# Altium schematic symbol library PSU_lib.SchLib: 118 symbols
Pins are listed as number, name and electrical type; pins without a type are passive.

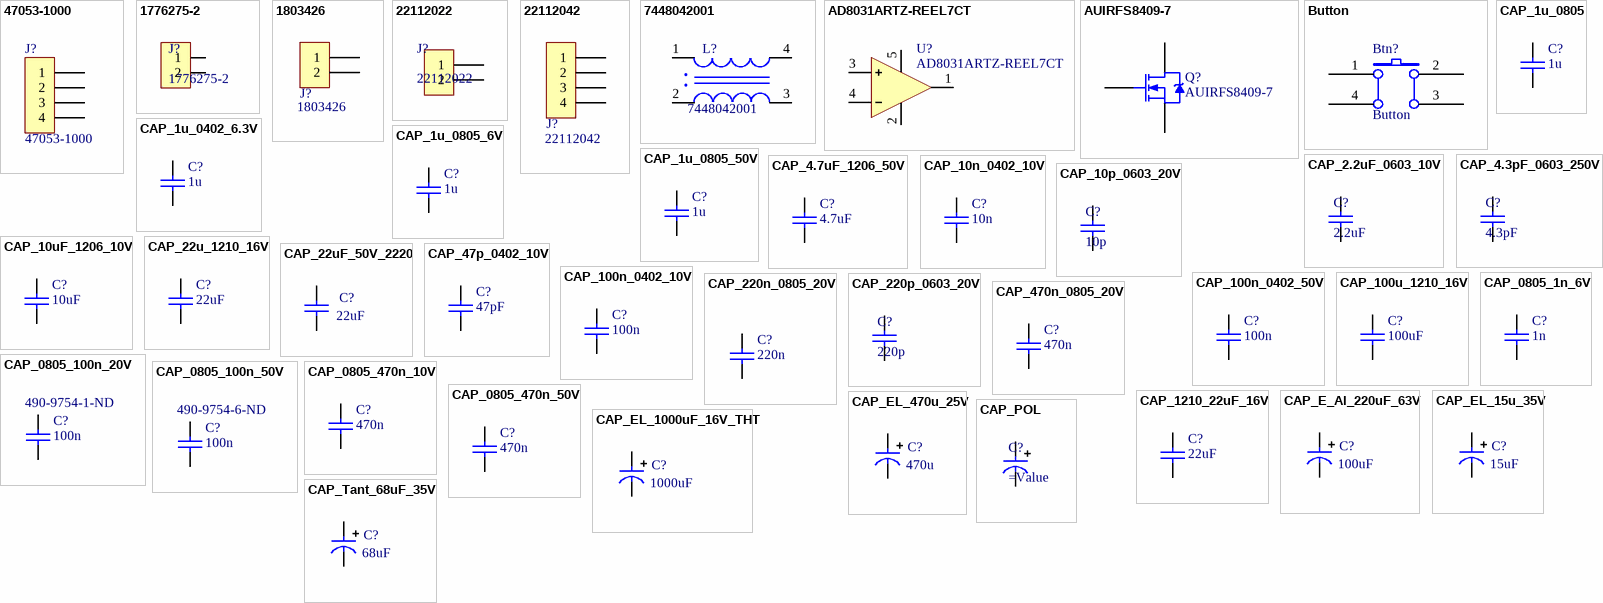
[diagram p0: symbols 47053-1000 to CAP_Tant_68uF_35V]

## 47053-1000
designator J?
Fan Molex; HelpURL: http://www.molex.com/pdm_docs/sd/470531000_sd.pdf; Supplier 1: Digikey; Supplier Part Number 1: 47053-1000
footprint 47053-1000
pins: 1, 2, 3, 4

## 1776275-2
designator J?
1776275-2 Screw terminal 3.5mm; HelpURL: http://www.farnell.com/cad/2291290.pdf?_ga=2.72031187.1173766906.1498332400-516227586.1495631175; Supplier 1: Farnell; Supplier Part Number 1: 1098611
footprint 1776275-2 (1776275-2 Screw terminal)
pins: 1, 2

## 1803426
designator J?
2 Position Terminal Block Header; Manufacturer: Phoenix Contact; Pin Count: 2; ManufacturerNr: 1803426; HelpURL: https://media.digikey.com/pdf/Data%20Sheets/Phoenix%20Contact%20PDFs/1803426.pdf; Supplier 1: Digikey; Supplier Part Number 1: 277-1221-ND
footprint 1803426
pins: 1, 2

## 22112022
designator J?
KK® 254 Solid Header, Vertical, with Friction Lock, 2 Circuits, Gold (Au) Plating
footprint 22112022
pins: 1, 2

## 22112042
designator J?
KK® 254 Solid Header, Vertical, with Friction Lock, 4 Circuits, Gold (Au) Plating; Manufacturer: Molex; Pin Count: 4; ManufacturerNr: 22-11-2042; HelpURL: http://www.molex.com/pdm_docs/sd/022112042_sd.pdf; Supplier 1: Digikey; Supplier Part Number 1: WM2702-ND
footprint 22112042
footprint 22112042
pins: 1, 2, 3, 4

## 7448042001
designator L?
Common Mode Choke; HelpURL: http://www.mouser.com/ds/2/445/7448042001-321510.pdf; Supplier 1: Mouser; Supplier Part Number 1: 710-7448042001
footprint 7448042001-321510
pins: 1, 2, 3, 4
text: .

## AD8031ARTZ-REEL7CT
designator U?
2.7 V, 800 μA, 80 MHz / Rail-to-Rail I/O Amplifiers; Manufacturer: Analog Devices; Pin Count: 5; ManufacturerNr: AD8031ARTZ-REEL7CT; Package: SOT23-5; HelpURL: http://www.analog.com/media/en/technical-documentation/data-sheets/AD8031_8032.pdf; Supplier 1: Digikey; Supplier Part Number 1: AD8031ARTZ-REEL7CT-ND
footprint AD-SOT23-5
pins: 1 VOUT, 2 V-, 3 IN++, 4 IN-, 5 V+

## AUIRFS8409-7
designator Q?
HEXFETPower MOSFET; Manufacturer: International Rectifier; Pin Count: 7; ManufacturerNr: AUIRFS8409-7; Package: D2PAK-7; HelpURL: http://www.infineon.com/dgdl/auirfs8409.pdf?fileId=5546d462533600a4015355b73c5f14ec; Supplier 1: Digikey; Supplier Part Number 1: IRAUIRFS8409-7P-ND
footprint AUIRFS8409-7
footprint IR-D2PAK-7
pins: 1 G, 2 S, 3 S, 4 S, 5 S, 6 S, 7 D

## Button
designator Btn?
SMD Button 6x6mm; Supplier Part Number 1: 2610936; Supplier 1: Farnell; HelpURL: http://www.farnell.com/datasheets/2074932.pdf?_ga=2.61565804.1785413670.1499418746-486400827.1488280890
footprint PB-6X6mm-Black (Surface Mounting Type Tact Switch, 4-Leads, Body 6x6mm, Height 4.5mm Black)
pins: 1 A0, 2 B0, 3 B1, 4 A1

## CAP_1u_0402_6.3V
designator C?, comment 1u
Capacitor 0402 1u 6.3V; Voltage Rating: 6V; Value: 1u; Supplier 1: Farnell; Supplier Part Number 1: 1759375; HelpURL: http://www.farnell.com/datasheets/1901289.pdf?_ga=2.5222707.1490140276.1500886468-486400827.1488280890
footprint 0402-Capacitor (Chip Capacitor, 2-Leads, Body 1,00x0,50mm, IPC Medium Density)
pins: 1, 2

## CAP_1u_0805
designator C?, comment 1u
Capacitor 0805 1u 20V; Value: 1u; Voltage Rating: 20V
footprint 0805-Capacitor (Chip Resistor, 2-Leads, Body 2,1x1,3mm, IPC Medium Density)
pins: 1, 2

## CAP_1u_0805_6V
designator C?, comment 1u
Capacitor 0805 1u 6V; Value: 1u; Voltage Rating: 6V
footprint 0805-Capacitor (Chip Resistor, 2-Leads, Body 2,1x1,3mm, IPC Medium Density)
pins: 1, 2

## CAP_1u_0805_50V
designator C?, comment 1u
Capacitor 0805 1u 50V; Value: 1u; Voltage Rating: 50V
footprint 0805-Capacitor (Chip Resistor, 2-Leads, Body 2,1x1,3mm, IPC Medium Density)
pins: 1, 2

## CAP_2.2uF_0603_10V
designator C?, comment 2.2uF
Capacitor 0603 2.2uF 10V; Supplier 1: Farnell; Supplier Part Number 1: 2346896; Value: 2.2uF; Voltage Rating: 10V
footprint 0603-Capacitor (Chip Resistor, 2-Leads, Body 1,6x0,8mm, IPC Medium Density)
pins: 1, 2

## CAP_4.3pF_0603_250V
designator C?, comment 4.3pF
Capacitor 0603 4.3pF 250V; Supplier 1: Farnell; Supplier Part Number 1: 1885382; Value: 4.3pF; Voltage Rating: 250V
footprint 0603-Capacitor (Chip Resistor, 2-Leads, Body 1,6x0,8mm, IPC Medium Density)
pins: 1, 2

## CAP_4.7uF_1206_50V
designator C?, comment 4.7uF
Capacitor 1206 4.7uF 50V; Value: 4.7uF; Voltage Rating: 50V
footprint 1206-capacitor
pins: 1, 2

## CAP_10n_0402_10V
designator C?, comment 10n
Capacitor 0402 10n 10V; Value: 10n; Voltage Rating: 10V
footprint 0402-Capacitor (Chip Capacitor, 2-Leads, Body 1,00x0,50mm, IPC Medium Density)
pins: 1, 2

## CAP_10p_0603_20V
designator C?, comment 10p
Capacitor 0603 10p 20V; Value: 10p; Voltage Rating: 20V
footprint 0603-Capacitor (Chip Resistor, 2-Leads, Body 1,6x0,8mm, IPC Medium Density)
pins: 1, 2

## CAP_10uF_1206_10V
designator C?, comment 10uF
Capacitor 1206 10uF 10V; Value: 10uF; Voltage Rating: 10V
footprint 1206-capacitor
pins: 1, 2

## CAP_22u_1210_16V
designator C?, comment 22uF
Capacitor 1210 22uF 16V; Value: 22uF; Voltage Rating: 16V
footprint 1210-Capacitor
pins: 1, 2

## CAP_22uF_50V_2220
designator C?, comment 22uF
Ceramic Capacitor, 22 uF, 50V, 2220; Part Number: C2220C226M5R2C7289; Manufacturer: Kemet; Dielectric: X7R; Pin Count: 2; Package: 2220; ManufacturerNr: C2220C226M5R2C7289; Value: 22uF; Voltage Rating: 50V; Supplier 1: Digi-Key; Supplier Part Number 1: 399-5817-6-ND
footprint KEMET_2220
pins: 1, 2

## CAP_47p_0402_10V
designator C?, comment 47pF
Capacitor 0402 47p 10V; Value: 47pF; Voltage Rating: 10V; Supplier 1: Farnell; Supplier Part Number 1: 2533784
footprint 0402-Capacitor (Chip Capacitor, 2-Leads, Body 1,00x0,50mm, IPC Medium Density)
pins: 1, 2

## CAP_100n_0402_10V
designator C?, comment 100n
Capacitor 0402 100n 10V; Value: 100n; Voltage Rating: 10V
footprint 0402-Capacitor (Chip Capacitor, 2-Leads, Body 1,00x0,50mm, IPC Medium Density)
pins: 1, 2

## CAP_100n_0402_50V
designator C?, comment 100n
Capacitor 0402 100n 50V; Value: 100n; Voltage Rating: 50V
footprint 0402-Capacitor (Chip Capacitor, 2-Leads, Body 1,00x0,50mm, IPC Medium Density)
pins: 1, 2

## CAP_100u_1210_16V
designator C?, comment 100uF
Capacitor 1210 100uF 16V; Value: 100uF; Voltage Rating: 16V; Supplier 1: Farnell; Supplier Part Number 1: 2309033
footprint 1210-Capacitor
pins: 1, 2

## CAP_220n_0805_20V
designator C?, comment 220n
Capacitor 0805 220n 20V; Value: 220n; Voltage Rating: 20V
footprint 0805-Capacitor (Chip Resistor, 2-Leads, Body 2,1x1,3mm, IPC Medium Density)
pins: 1, 2

## CAP_220p_0603_20V
designator C?, comment 220p
Capacitor 0603 220p 20V; Value: 220p; Voltage Rating: 20V
footprint 0603-Capacitor (Chip Resistor, 2-Leads, Body 1,6x0,8mm, IPC Medium Density)
pins: 1, 2

## CAP_470n_0805_20V
designator C?, comment 470n
Capacitor 0805 470n 20V; Value: 470n; Voltage Rating: 20V
footprint 0805-Capacitor (Chip Resistor, 2-Leads, Body 2,1x1,3mm, IPC Medium Density)
pins: 1, 2

## CAP_0805_1n_6V
designator C?, comment 1n
Capacitor 0805 1n 6V; Part Number: C0805; Pin Count: 2; Manufacturer: *; Package: 0805; ManufacturerNr: *; Value: 1n; Voltage Rating: 6V; Dielectric: *; Supplier 1: Newark; Supplier Part Number 1: 23T7454
footprint 0805-Capacitor
pins: 1, 2

## CAP_0805_100n_20V
designator C?, comment 100n  Supplier Part Number 1: 490-9754-1-ND
Capacitor 0805 100n 20V; Part Number: C0805; Pin Count: 2; Manufacturer: *; Package: 0805; ManufacturerNr: *; Value: 100n; Voltage Rating: 20V; Dielectric: *; Supplier 1: Digikey
footprint 0805-Capacitor
pins: 1, 2

## CAP_0805_100n_50V
designator C?, comment 100n  Supplier Part Number 1: 490-9754-6-ND
Capacitor 0805 100n 50V; Part Number: C0805; Pin Count: 2; Manufacturer: *; Package: 0805; ManufacturerNr: *; Value: 100n; Voltage Rating: 50V; Dielectric: *; Supplier 1: Digikey
footprint 0805-Capacitor
pins: 1, 2

## CAP_0805_470n_10V
designator C?, comment 470n
Capacitor 0805 470n 10V; Part Number: C0805; Pin Count: 2; Manufacturer: *; Package: 0805; ManufacturerNr: *; Value: 470n; Voltage Rating: 10V; Dielectric: *; Supplier 1: Mouser; Supplier Part Number 1: 581-0805ZC474K4Z2A
footprint 0805-Capacitor
pins: 1, 2

## CAP_0805_470n_50V
designator C?, comment 470n
Capacitor 0805 470n 50V; Part Number: C0805; Pin Count: 2; Manufacturer: *; Package: 0805; ManufacturerNr: *; Value: 470n; Voltage Rating: 50V; Dielectric: *; Supplier 1: Mouser; Supplier Part Number 1: 581-0805ZC474K4Z2A
footprint 0805-Capacitor
pins: 1, 2

## CAP_1210_22uF_16V
designator C?, comment 22uF
Capacitor 1210 22uF 16V; Part Number: C1210; Pin Count: 2; Manufacturer: *; Package: 1210; ManufacturerNr: *; Value: 22uF; Voltage Rating: 16V; Dielectric: *; Supplier 1: Digikey; Supplier Part Number 1: 399-5092-1-ND
footprint 1210-Capacitor
pins: 1, 2

## CAP_E_Al_220uF_63V
designator C?, comment 100uF
Polymer Aluminium Capacitor, 220 uF, 63V; Part Number: PCR1J101MCL1GS; Manufacturer: Nichicon; Pin Count: 2; Package: PCR_10_12; ManufacturerNr: PCR1J101MCL1GS; Value: 100uF; Voltage Rating: 63V; Dielectric: Polymer Aluminium; Supplier 1: Digikey; Supplier Part Number 1: 493-13783-1-ND
footprint PCR_10_12
pins: 1, 2

## CAP_EL_15u_35V
designator C?, comment 15uF
Polymer Aluminium Capacitor, 15uF, 35V; Value: 15uF; Voltage Rating: 35V
footprint PCR_10_12 (Aluminum Electrolytic Capacitor, Body 10,30x10,30x12,70mm, IPC Low Density)
pins: 1, 2

## CAP_EL_470u_25V
designator C?, comment 470u
Polymer Aluminium Capacitor, 470uF, 25V; Value: 470u; Voltage Rating: 25V; Supplier 1: Farnell; Supplier Part Number 1: 1539511
footprint PCR_10_12 (Aluminum Electrolytic Capacitor, Body 10,30x10,30x12,70mm, IPC Low Density)
pins: 1, 2

## CAP_EL_1000uF_16V_THT
designator C?, comment 1000uF
Polymer Aluminium Capacitor, 1000uF, 16V; Value: 1000uF; Voltage Rating: 16V; Supplier 1: TME; Supplier Part Number 1: UPW1C102MPD
footprint PCTHT_fi10h20 (Electrolytic capacitor fi10mm h20mm)
pins: 1, 2

## CAP_POL
designator C?
pins: 1, 2

## CAP_Tant_68uF_35V
designator C?, comment 68uF
Capacitor Tantalum 68uF 35V; Value: 68uF; Voltage Rating: 35V; Supplier 1: Farnell; Supplier Part Number 1: 1658760
footprint A_2917V (Tantalum capacitor case V)
pins: 1, 2

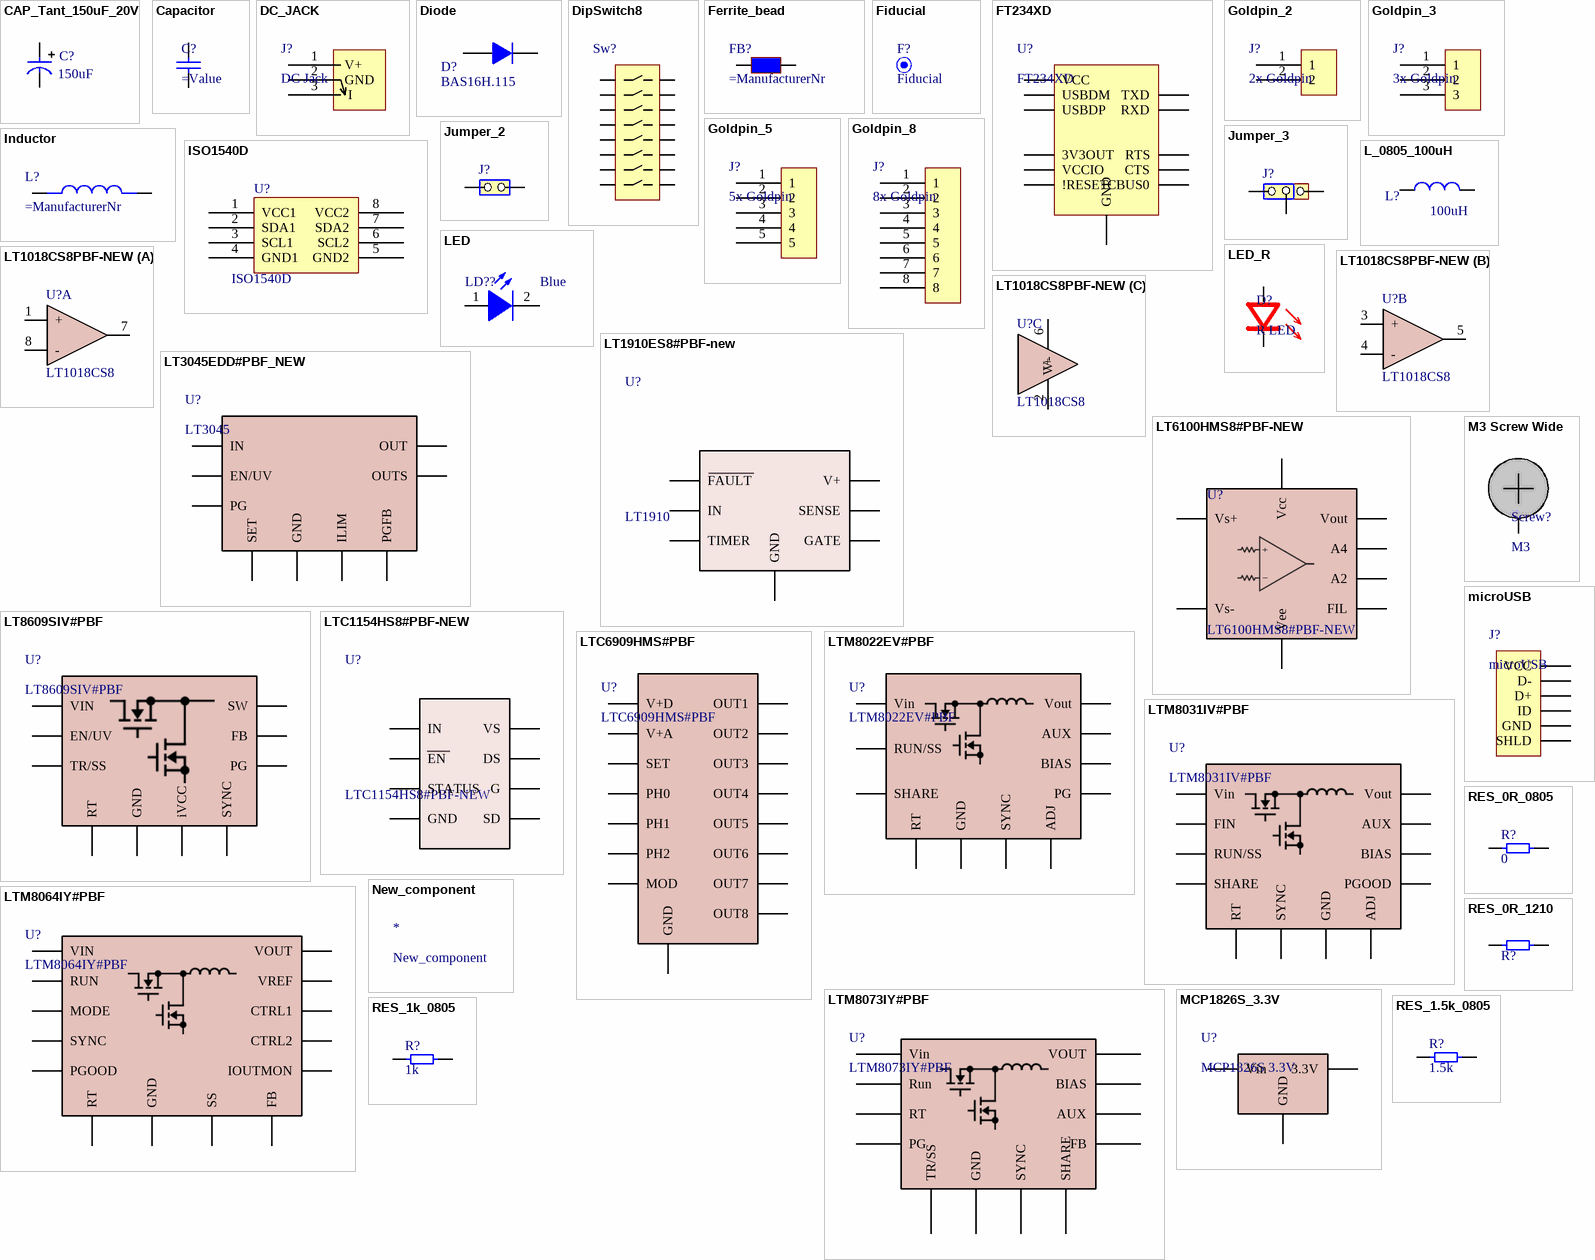
[diagram p1: symbols CAP_Tant_150uF_20V to RES_1k_0805]

## CAP_Tant_150uF_20V
designator C?, comment 150uF
Capacitor Tantalum 150uF 20V; Value: 150uF; Voltage Rating: 20V; Supplier 1: Farnell; Supplier Part Number 1: 2112979
footprint A_2917X (Tantalum capacitor case X)
pins: 1, 2

## Capacitor
designator C?
pins: 1, 2

## DC_JACK
designator J?, comment DC Jack
Standard 2.1 / 2.5 DC Jack connector; HelpURL: https://www.sparkfun.com/datasheets/Prototyping/Barrel-Connector-PJ-202A.pdf; Supplier Part Number 1: *; Supplier 1: *
footprint DC_JACK (DC JACK)
pins: 1  V+ (power), 2  GND (power), 3   I (power)

## Diode
designator D?, comment BAS16H.115
Diode; Manufacturer: NEXPERIA; Pin Count: 2; Package: SOD123; ManufacturerNr: BAS16H.115; HelpURL: http://assets.nexperia.com/documents/data-sheet/BAS16_SER.pdf; Supplier 1: Digikey; Supplier Part Number 1: 1727-4796-1-ND
footprint SOD123 (SOD123 DIODE)
pins: 1 A, 2 K

## DipSwitch8
designator Sw?
8 Position dip switch; HelpURL: http://www.farnell.com/datasheets/1884226.pdf?_ga=2.158802494.542264837.1502883663-486400827.1488280890; Supplier 1: Farnell; Supplier Part Number 1: 9479082
footprint DipSwitch8tht (8 position SMD DIP16 Switch)
pins: 1, 2, 3, 4, 5, 6, 7, 8, 9, 10, 11, 12, 13, 14, 15, 16

## Ferrite_bead
designator FB?
pins: 1, 2

## Fiducial
designator F?

## FT234XD
designator U?
FT234XD USB TO UART; HelpURL: http://www.farnell.com/datasheets/1812674.pdf?_ga=2.206394771.1490140276.1500886468-486400827.1488280890; Supplier 1: Farnell; Supplier Part Number 1: 2419911
footprint DFN12
pins: 1 USBDM, 2 !RESET, 3 3V3OUT, 4 VCC, 5 GND, 6 CBUS0, 7 TXD, 8 RTS, 9 VCCIO, 10 RXD, 11 CTS, 12 USBDP, 13 GND

## Goldpin_2
designator J?, comment 2x Goldpin
2x Goldpin 2.56mm
footprint 2x Goldpin (2x Goldpin 2.56mm)
pins: 1, 2

## Goldpin_3
designator J?, comment 3x Goldpin
3x Goldpin 2.56mm
footprint 3x Goldpin (3x Goldpin 2.56mm)
pins: 1, 2, 3

## Goldpin_5
designator J?, comment 5x Goldpin
5x Goldpin 2.56mm
footprint 5x Goldpin (5x Goldpin 2.56mm)
pins: 1, 2, 3, 4, 5

## Goldpin_8
designator J?, comment 8x Goldpin
8x Goldpin 2.56mm
footprint 8x Goldpin (8x Goldpin 2.56mm)
pins: 1, 2, 3, 4, 5, 6, 7, 8

## Inductor
designator L?
pins: 1 RF-IN, 2 RF-OUT

## ISO1540D
designator U?
Low-Power Bidirectional I / 2C Isolator; Manufacturer: Texas Instruments; Pin Count: 8; ManufacturerNr: ISO1540D; Package: SOIC-8; HelpURL: http://www.ti.com/lit/ds/symlink/iso1541.pdf; Supplier 1: Farnell; Supplier Part Number 1: 2496652
footprint TI-SO8
pins: 1 VCC1, 2 SDA1, 3 SCL1, 4 GND1, 5 GND2, 6 SCL2, 7 SDA2, 8 VCC2

## Jumper_2
designator J?  (no BOM)
2x 2.56mm jumper
footprint Jumper (2x 2.56mm jumper)
pins: 1 COMMON, 2 NO

## Jumper_3
designator J?  (no BOM)
3x 2.56mm jumper
footprint Jumper_3pin (3x 2.56mm jumper)
pins: 1, 2, 3

## L_0805_100uH
designator L?, comment 100uH
100uH 0805 Inductor; Revision: July-2002: Re-released for DXP Platform.; Supplier Part Number 1: 1653741; Supplier 1: Farnell; HelpURL: http://pl.farnell.com/taiyo-yuden/lb2012t101k/inductor-wirewound/dp/1653741; Value: 100uH
footprint 0805-Inductor (Chip Resistor, 2-Leads, Body 2,1x1,3mm, IPC Medium Density)
pins: 1, 2

## LED
designator LD??, comment Blue
Typical RED, GREEN, YELLOW, AMBER GaAs LED; Published: 8-Jun-2000; Revision: July-2002: Re-released for DXP Platform.; Publisher: Altium Limited
footprint 0603D-B (LED, SMT, Body 1.6 x 0.8 mm, 0.25mm Thickness)
footprint 0603D-G (LED, SMT, Body 1.6 x 0.8 mm, 0.25mm Thickness)
footprint 0603D-R (LED, SMT, Body 1.6 x 0.8 mm, 0.25mm Thickness)
pins: 1 A, 2 K

## LED_R
designator D?, comment R LED
Supplier 1: Farnell; Supplier Part Number 1: 2099221
footprint LED (SMD LED)
pins: A, C

## LT1018CS8PBF-NEW
designator U?, comment LT1018CS8
Micropower  Dual Comparator; HelpURL: http://cds.linear.com/docs/en/datasheet/10178ff.pdf; Supplier 1: TME; Supplier Part Number 1: LT1018CS8PBF
footprint LT-MS8 (TSOP, 8-Leads, Body 3,00x3,00mm, Pitch 0,65mm, IPC Medium Density)
part A pins: 1 +, 7, 8 -
part B pins: 3 +, 4 -, 5
part C pins: 2 V-, 6 V+

## LT1910ES8#PBF-new
designator U?, comment LT1910
60V High side MOSFET driver; HelpURL: http://www.farnell.com/datasheets/1947350.pdf?_ga=2.123371467.1579310919.1499166877-486400827.1488280890; Supplier 1: Farnell; Supplier Part Number 1: 1273493
footprint LT-S8 (SOIC, 8-Leads, Body 4,90x3,90mm, Pitch 1,27mm, IPC Medium Density)
pins: 1 GND, 2 TIMER, 3 FAULT, 4 IN, 5 GATE, 6 SENSE, 7 N/C hidden, 8 V+

## LT3045EDD#PBF_NEW
designator U?, comment LT3045
3.3V 1000 mA, Low-Voltage, Low Quiescent Current  LDO Regulator; HelpURL: http://www.farnell.com/datasheets/2163219.pdf?_ga=2.13800695.1579310919.1499166877-486400827.1488280890; Supplier 1: Farnell; Supplier Part Number 1: 2750583
footprint LT-DFN10 (QFN, 10-Leads, Body 3,00x3,00mm, Pitch 0,50mm, Thermal Pad 1,65x2,54mm, IPC Medium Density)
pins: 1 IN, 2 IN, 3 EN/UV, 4 PG, 5 ILIM, 6 PGFB, 7 SET, 8 GND, 9 OUTS, 10 OUT, 11 GND

## LT6100HMS8#PBF-NEW
designator U?
Precision Current Sense Amplifier; HelpURL: http://www.linear.com/docs/7918; Supplier 1: Digikey; Supplier Part Number 1: LT6100HMS8#PBF-ND
footprint LT-MS8 (TSOP, 8-Leads, Body 3,00x3,00mm, Pitch 0,65mm, IPC Medium Density)
pins: 1 Vs-, 2 Vcc, 3 FIL, 4 Vee, 5 Vout, 6 A2, 7 A4, 8 Vs+

## LT8609SIV#PBF
designator U?
42V, 2A/3A Peak  Synchronous Step-Down Regulator  with 2.5μA Quiescent Current; HelpURL: http://www.farnell.com/datasheets/2291146.pdf?_ga=2.21534843.1579310919.1499166877-486400827.1488280890; Supplier 1: Farnell; Supplier Part Number 1: 2762633
footprint LT-QFN16 (QFN, 16-Leads, Body 3,00x3,00mm, Pitch 0,50mm, Thermal Pad 1,45x1,45mm, IPC Medium Density)
pins: 1 RT, 2 iVCC "Internal VCC for decoupling", 3 GND, 4 GND, 5 SW, 6 SW, 7 N/C hidden, 8 GND, 9 VIN, 10 VIN, 11 EN/UV, 12 PG, 13 FB, 14 GND, 15 TR/SS, 16 SYNC, 17 GND

## LTC1154HS8#PBF-NEW
designator U?
High side MOSFET driver; HelpURL: http://www.linear.com/docs/2054; Supplier 1: Digikey; Supplier Part Number 1: LTC1154HS8#PBF-ND
footprint LT-S8 (SOIC, 8-Leads, Body 4,90x3,90mm, Pitch 1,27mm, IPC Medium Density)
pins: 1 IN, 2 EN, 3 STATUS, 4 GND, 5 SD, 6 G, 7 DS, 8 VS

## LTC6909HMS#PBF
designator U?
1 to 8 Output, Multiphase  Silicon Oscillator with Spread  Spectrum Modulation; HelpURL: http://www.farnell.com/datasheets/1691477.pdf?_ga=2.189079211.1836316100.1498930340-486400827.1488280890; Supplier 1: Farnell; Supplier Part Number 1: 2294452
footprint LT-MSOP-16 (TSSOP, 16-Leads, Body 4,04x3,00mm, Pitch 0,50mm, IPC Medium Density)
pins: 1 V+A, 2 GND, 3 PH0, 4 PH1, 5 OUT1, 6 OUT2, 7 OUT3, 8 OUT4, 9 OUT5, 10 OUT6, 11 OUT7, 12 OUT8, 13 V+D, 14 MOD, 15 PH2, 16 SET

## LTM8022EV#PBF
designator U?
1A 36V DC/DC μModule; HelpURL: http://www.farnell.com/datasheets/1605150.pdf?_ga=2.45828000.548753344.1498937839-516227586.1495631175; Supplier 1: Farnell; Supplier Part Number 1: 1799826
footprint LTM8022-LGA
pins: A1 Vout, A2 Vout, A3 Vout, A4 Vout, A5 GND, A6 GND, A7 GND, B1 Vout, B2 Vout, B3 Vout, B4 Vout, B5 GND, B6 GND, B7 GND, C1 Vout, C2 Vout, C3 Vout, C4 Vout, C5 GND, C6 GND, C7 GND, D1 GND, D2 GND, D3 GND, D4 GND, D5 GND, D6 GND, D7 GND, E1 GND, E2 GND, E3 GND, E4 GND, E5 GND, E6 GND, E7 GND, F5 AUX, F6 GND, F7 SHARE, G1 Vin, G2 Vin, G3 Vin, G5 BIAS, G6 SYNC, G7 RT, H1 Vin, H2 Vin, H3 Vin, H5 RUN/SS, H6 PG, H7 ADJ

## LTM8031IV#PBF
designator U?
Ultralow Noise EMC 36V, 1A   DC/DC μModule Regulator; HelpURL: http://cds.linear.com/docs/en/datasheet/8031fb.pdf; Supplier 1: Farnell; Supplier Part Number 1: 2115895
footprint LTM8031-LGA
pins: A1 Vout, A2 Vout, A3 Vout, A4 Vout, A5 GND, A6 GND, A7 GND, B1 Vout, B2 Vout, B3 Vout, B4 Vout, B5 GND, B6 GND, B7 GND, C1 Vout, C2 Vout, C3 Vout, C4 Vout, C5 GND, C6 GND, C7 GND, D1 Vout, D2 Vout, D3 Vout, D4 Vout, D5 GND, D6 GND, D7 GND, E1 GND, E2 GND, E3 GND, E4 GND, E5 GND, E6 GND, E7 GND, F1 GND, F2 GND, F3 GND, F4 GND, F5 GND, F6 GND, F7 GND, G1 GND, G2 GND, G3 GND, G4 GND, G5 GND, G6 GND, G7 RT, H1 GND, H2 GND, H3 GND, H4 BIAS, H5 AUX, H6 GND, H7 SHARE, J5 GND, J6 GND, J7 ADJ, K1 Vin, K2 Vin, K3 FIN, K5 GND, K6 GND, K7 PGOOD, L1 Vin, L2 Vin, L3 FIN, L5 RUN/SS, L6 SYNC, L7 GND

## LTM8064IY#PBF
designator U?
58VIN, 6A CVCC Step-Down  μModule Regulator; HelpURL: http://www.linear.com/docs/52307; Supplier 1: Digikey; Supplier Part Number 1: LTM8064IY#PBF-ND
footprint LTM8064
pins: A1 GND, A2 FB, A3 PGOOD, A4 RUN, A5 VIN, A6 VIN, A7 VIN, A8 VIN, A9 VIN, B1 CTRL2, B2 VREF, B3 GND, B4 GND, B5 VIN, B6 VIN, B7 VIN, B8 VIN, B9 VIN, C1 CTRL1, C2 GND, C3 GND, C4 GND, C5 GND, C6 GND, C7 GND, C8 GND, C9 GND, D1 SS, D2 GND, D3 GND, D4 GND, D5 GND, D6 GND, D7 GND, D8 GND, D9 GND, E1 IOUTMON, E2 RT, E3 GND, E4 GND, E5 GND, E6 GND, E7 GND, E8 GND, E9 GND, F1 SYNC, F2 MODE, F3 GND, F4 GND, F5 GND, F6 GND, F7 GND, F8 GND, F9 GND, G1 GND, G2 GND, G3 GND, G4 GND, G5 GND, G6 GND, G7 GND, G8 GND, G9 GND, H1 VOUT, H2 VOUT, H3 VOUT, H4 VOUT, H5 GND, H6 GND, H7 GND, H8 GND, H9 GND, J1 VOUT, J2 VOUT, J3 VOUT, J4 VOUT, J5 GND, J6 GND, J7 GND, J8 GND, J9 GND, K1 VOUT, K2 VOUT, K3 VOUT, K4 VOUT, K5 GND, K6 GND, K7 GND, K8 GND, K9 GND, L1 VOUT, L2 VOUT, L3 VOUT, L4 VOUT, L5 GND, L6 GND, L7 GND, L8 GND, L9 GND, M1 VOUT, M2 VOUT, M3 VOUT, M4 VOUT, M5 GND, M6 GND, M7 GND, M8 GND, M9 GND

## LTM8073IY#PBF
designator U?
LTM8073 60Vin 3A Silent Switching uModule Regulator; HelpURL: http://cds.linear.com/docs/en/datasheet/8073f.pdf; Supplier 1: Digikey; Supplier Part Number 1: LTM8073IY#PBF
footprint LTM8073-BGA
pins: A1 GND, A2 BIAS, A3 PG, A4 SHARE, A5 RT, A6 GND, B1 FB, B2 AUX, B3 GND, B4 SYNC, B5 TR/SS, B6 Run, C1 GND, C2 GND, C3 Vin, C4 Vin, C5 Vin, C6 Vin, D1 GND, D2 GND, D3 GND, D4 GND, D5 GND, D6 GND, E1 GND, E2 GND, E3 GND, E4 GND, E5 GND, E6 GND, F1 GND, F2 GND, F3 GND, F4 GND, F5 GND, F6 GND, G1 VOUT, G2 VOUT, G3 VOUT, G4 VOUT, G5 VOUT, G6 VOUT, H1 VOUT, H2 VOUT, H3 VOUT, H4 VOUT, H5 VOUT, H6 VOUT

## M3 Screw Wide
designator Screw?, comment M3
footprint M3 WIDE Screw + Spacer (M3mmx10mm Screw + 10mm Spacer)
pins: 0

## MCP1826S_3.3V
designator U?, comment MCP1826S 3.3V
3.3V 1000 mA, Low-Voltage, Low Quiescent Current  LDO Regulator; HelpURL: http://www.farnell.com/datasheets/1769092.pdf?_ga=2.24880056.362529079.1499074829-486400827.1488280890; Supplier 1: Farnell; Supplier Part Number 1: 1578424
footprint SOT-223 (SOT-223/SC-73; 4 Leads; Body 6.7 x 7.3 mm, inc. leads (LxW max))
pins: 1 Vin, 2 GND, 3 3.3V, 4 GND

## microUSB
designator J?
Micro USB SMD connector; HelpURL: http://www.farnell.com/datasheets/1469075.pdf?_ga=2.187533163.2128429816.1501151144-486400827.1488280890; Supplier 1: Farnell; Supplier Part Number 1: 2293753
footprint MicroUSB (MicroUSB SMD connector)
pins: 1 VCC, 2 D-, 3 D+, 4 ID, 5 GND, GND SHLD

## New_component
designator *

## RES_0R_0805
designator R?, comment 0
Resistor 0R 0805; Value: 0
footprint 0805-Resistor (Chip Resistor, 2-Leads, Body 2,1x1,3mm, IPC Medium Density)
pins: 1, 2

## RES_0R_1210
designator R?, comment 0  (value not drawn)
Resistor 0R 1210; Value: 0
footprint 1210-RESISTOR
pins: 1, 2

## RES_1.5k_0805
designator R?, comment 1.5k
Resistor 1.5k 0805; Part Number: R0805prime; Pin Count: 2; Manufacturer: *; Package: 0805; ManufacturerNr: *; Value: 1.5k; Supplier 1: Digikey; Supplier Part Number 1: CR0805-FX-1501ELFCT-ND
footprint 0805-Resistor
pins: 1, 2

## RES_1k_0805
designator R?, comment 1k
Resistor 1k 0805; Part Number: R0805prime; Pin Count: 2; Manufacturer: *; Package: 0805; ManufacturerNr: *; Value: 1k; Supplier 1: Digikey; Supplier Part Number 1: 490-2454-1-ND
footprint 0805-Resistor
pins: 1, 2

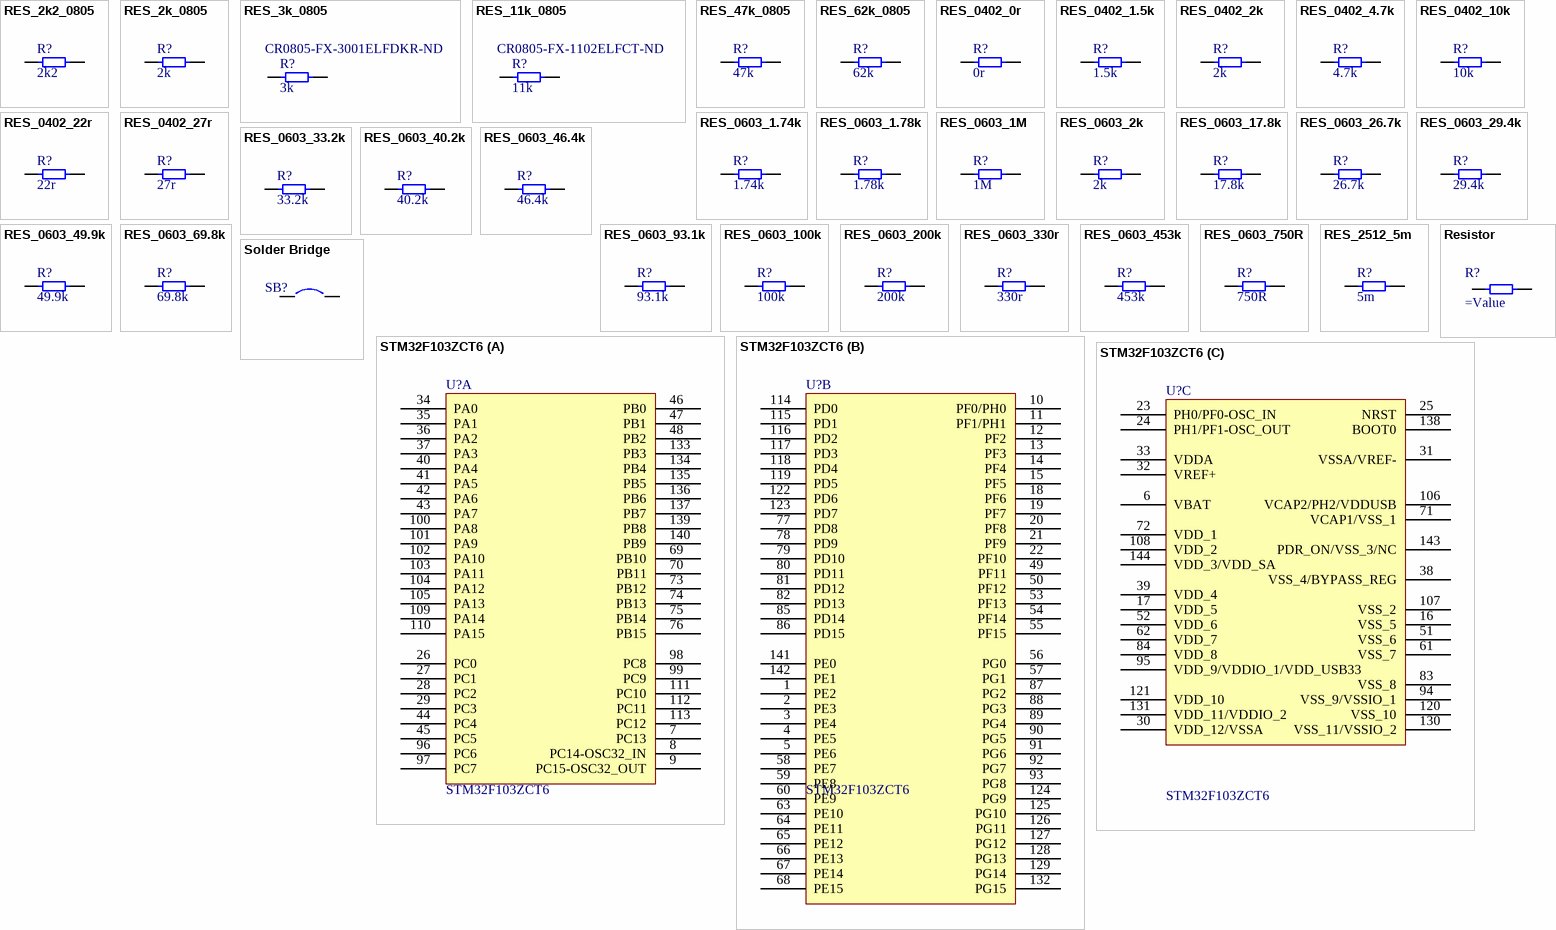
[diagram p2: symbols RES_2k2_0805 to STM32F103ZCT6]

## RES_2k2_0805
designator R?, comment 2k2
Resistor 2k2 0805; Value: 2k2
footprint 0805-Resistor (Chip Resistor, 2-Leads, Body 2,1x1,3mm, IPC Medium Density)
pins: 1, 2

## RES_2k_0805
designator R?, comment 2k
Resistor 12k 0805; Value: 2k
footprint 0805-Resistor
pins: 1, 2

## RES_3k_0805
designator R?, comment 3k  Supplier Part Number 1: CR0805-FX-3001ELFDKR-ND
Resistor 3k 0805; Part Number: R0805prime; Pin Count: 2; Manufacturer: *; Package: 0805; ManufacturerNr: *; Value: 3k; Supplier 1: Digikey
footprint 0805-Resistor
pins: 1, 2

## RES_11k_0805
designator R?, comment 11k  Supplier Part Number 1: CR0805-FX-1102ELFCT-ND
Resistor 11k 0805; Part Number: R0805prime; Pin Count: 2; Manufacturer: *; Package: 0805; ManufacturerNr: *; Value: 11k; Supplier 1: Digikey
footprint 0805-Resistor
pins: 1, 2

## RES_47k_0805
designator R?, comment 47k
Resistor 47k 0805; Value: 47k
footprint 0805-Resistor (Chip Resistor, 2-Leads, Body 2,1x1,3mm, IPC Medium Density)
pins: 1, 2

## RES_62k_0805
designator R?, comment 62k
Resistor 62k 0805; Value: 62k; Supplier 1: Farnell; Supplier Part Number 1: 2502749
footprint 0805-Resistor
pins: 1, 2

## RES_0402_0r
designator R?, comment 0r
Resistor 0r 0402; Value: 0r; Supplier 1: Farnell; Supplier Part Number 1: 2072513
footprint 0402-RESISTOR (Resistor, Capacitor, 2-Leads, Body 1,0x0,5mm, IPC Medium Density)
pins: 1, 2

## RES_0402_1.5k
designator R?, comment 1.5k
Resistor 1.5k 0402; Value: 1.5k; Supplier 1: Farnell; Supplier Part Number 1: 9239251
footprint 0402-RESISTOR (Resistor, Capacitor, 2-Leads, Body 1,0x0,5mm, IPC Medium Density)
pins: 1, 2

## RES_0402_2k
designator R?, comment 2k
Resistor 2k 0402; Value: 2k; Supplier 1: Farnell; Supplier Part Number 1: 2324771
footprint 0402-RESISTOR (Resistor, Capacitor, 2-Leads, Body 1,0x0,5mm, IPC Medium Density)
pins: 1, 2

## RES_0402_4.7k
designator R?, comment 4.7k
Resistor 4.7k 0402; Value: 4.7k; Supplier 1: Farnell; Supplier Part Number 1: 2302707
footprint 0402-RESISTOR (Resistor, Capacitor, 2-Leads, Body 1,0x0,5mm, IPC Medium Density)
pins: 1, 2

## RES_0402_10k
designator R?, comment 10k
Resistor 10k 0402; Value: 10k; Supplier 1: Farnell; Supplier Part Number 1: 2355672
footprint 0402-RESISTOR (Resistor, Capacitor, 2-Leads, Body 1,0x0,5mm, IPC Medium Density)
pins: 1, 2

## RES_0402_22r
designator R?, comment 22r
Resistor 22r 0402; Value: 22r; Supplier 1: Farnell; Supplier Part Number 1: 2078850
footprint 0402-RESISTOR (Resistor, Capacitor, 2-Leads, Body 1,0x0,5mm, IPC Medium Density)
pins: 1, 2

## RES_0402_27r
designator R?, comment 27r
Resistor 27r 0402; Value: 27r; Supplier 1: Farnell; Supplier Part Number 1: 2140614
footprint 0402-RESISTOR (Resistor, Capacitor, 2-Leads, Body 1,0x0,5mm, IPC Medium Density)
pins: 1, 2

## RES_0603_1.74k
designator R?, comment 1.74k
Resistor 1.74k 0603; Value: 1.74k
footprint 0603-RESISTOR (Chip Resistor, 2-Leads, Body 1,6x0,8mm, IPC Medium Density)
pins: 1, 2

## RES_0603_1.78k
designator R?, comment 1.78k
Resistor 1.78k 0603; Value: 1.78k
footprint 0603-RESISTOR (Chip Resistor, 2-Leads, Body 1,6x0,8mm, IPC Medium Density)
pins: 1, 2

## RES_0603_1M
designator R?, comment 1M
Resistor 1M 0603; Value: 1M
footprint 0603-RESISTOR (Chip Resistor, 2-Leads, Body 1,6x0,8mm, IPC Medium Density)
pins: 1, 2

## RES_0603_2k
designator R?, comment 2k
Resistor 2k 0603; Value: 2k
footprint 0603-RESISTOR (Chip Resistor, 2-Leads, Body 1,6x0,8mm, IPC Medium Density)
pins: 1, 2

## RES_0603_17.8k
designator R?, comment 17.8k
Resistor 17.8k 0603; Value: 17.8k
footprint 0603-RESISTOR (Chip Resistor, 2-Leads, Body 1,6x0,8mm, IPC Medium Density)
pins: 1, 2

## RES_0603_26.7k
designator R?, comment 26.7k
Resistor 26.7k 0603; Value: 26.7k
footprint 0603-RESISTOR (Chip Resistor, 2-Leads, Body 1,6x0,8mm, IPC Medium Density)
pins: 1, 2

## RES_0603_29.4k
designator R?, comment 29.4k
Resistor 29.4k 0603; Value: 29.4k
footprint 0603-RESISTOR (Chip Resistor, 2-Leads, Body 1,6x0,8mm, IPC Medium Density)
pins: 1, 2

## RES_0603_33.2k
designator R?, comment 33.2k
Resistor 33.2k 0603; Value: 33.2k
footprint 0603-RESISTOR (Chip Resistor, 2-Leads, Body 1,6x0,8mm, IPC Medium Density)
pins: 1, 2

## RES_0603_40.2k
designator R?, comment 40.2k
Resistor 40.2k 0603; Value: 40.2k
footprint 0603-RESISTOR (Chip Resistor, 2-Leads, Body 1,6x0,8mm, IPC Medium Density)
pins: 1, 2

## RES_0603_46.4k
designator R?, comment 46.4k
Resistor 46.4k 0603; Value: 46.4k
footprint 0603-RESISTOR (Chip Resistor, 2-Leads, Body 1,6x0,8mm, IPC Medium Density)
pins: 1, 2

## RES_0603_49.9k
designator R?, comment 49.9k
Resistor 49.9k 0603; Value: 49.9k
footprint 0603-RESISTOR (Chip Resistor, 2-Leads, Body 1,6x0,8mm, IPC Medium Density)
pins: 1, 2

## RES_0603_69.8k
designator R?, comment 69.8k
Resistor 69.8k 0603; Value: 69.8k
footprint 0603-RESISTOR (Chip Resistor, 2-Leads, Body 1,6x0,8mm, IPC Medium Density)
pins: 1, 2

## RES_0603_93.1k
designator R?, comment 93.1k
Resistor 93.1k 0603; Value: 93.1k
footprint 0603-RESISTOR (Chip Resistor, 2-Leads, Body 1,6x0,8mm, IPC Medium Density)
pins: 1, 2

## RES_0603_100k
designator R?, comment 100k
Resistor 100k 0603; Value: 100k
footprint 0603-RESISTOR (Chip Resistor, 2-Leads, Body 1,6x0,8mm, IPC Medium Density)
pins: 1, 2

## RES_0603_200k
designator R?, comment 200k
Resistor 200k 0603; Value: 200k
footprint 0603-RESISTOR (Chip Resistor, 2-Leads, Body 1,6x0,8mm, IPC Medium Density)
pins: 1, 2

## RES_0603_330r
designator R?, comment 330r
Resistor 330r 0603; Value: 330r; Supplier 1: Farnell; Supplier Part Number 1: 2531684
footprint 0603-RESISTOR (Chip Resistor, 2-Leads, Body 1,6x0,8mm, IPC Medium Density)
pins: 1, 2

## RES_0603_453k
designator R?, comment 453k
Resistor 453k 0603; Value: 453k
footprint 0603-RESISTOR (Chip Resistor, 2-Leads, Body 1,6x0,8mm, IPC Medium Density)
pins: 1, 2

## RES_0603_750R
designator R?, comment 750R
Resistor 750R 0603; Value: 750R
footprint 0603-RESISTOR (Chip Resistor, 2-Leads, Body 1,6x0,8mm, IPC Medium Density)
pins: 1, 2

## RES_2512_5m
designator R?, comment 5m
Resistor 2512 5m; Part Number: R2512; Pin Count: 2; Manufacturer: *; Package: 2512; ManufacturerNr: *; Value: 5m; Supplier 1: Digikey; Supplier Part Number 1: CRE2512-FZ-R005E-2DKR-ND
footprint 2512-RESISTOR
pins: 1, 2

## Resistor
designator R?
pins: 1, 2

## Solder Bridge
designator SB?  (value not drawn)  (no BOM)
Revision: July-2002: Re-released for DXP Platform.
footprint SB_0603 (Jumper)
pins: 1, 2

## STM32F103ZCT6
designator U?
Supplier Part Number 1: 1624142; Supplier 1: Farnell; HelpURL: https://www.espruino.com/datasheets/STM32F103xC.pdf
footprint LQFP144_0R5_SKT (32-bit MCU ARM-based Cortex-M3 20 X 20mm, 0.5mm Pitch, 1.6mm Max thickness)
part A pins: 7 PC13, 8 PC14-OSC32_IN, 9 PC15-OSC32_OUT, 26 PC0, 27 PC1, 28 PC2, 29 PC3, 34 PA0, 35 PA1, 36 PA2, 37 PA3, 40 PA4, 41 PA5, 42 PA6, 43 PA7, 44 PC4, 45 PC5, 46 PB0, 47 PB1, 48 PB2, 69 PB10, 70 PB11, 73 PB12, 74 PB13, 75 PB14, 76 PB15, 96 PC6, 97 PC7, 98 PC8, 99 PC9, 100 PA8, 101 PA9, 102 PA10, 103 PA11, 104 PA12, 105 PA13, 109 PA14, 110 PA15, 111 PC10, 112 PC11, 113 PC12, 133 PB3, 134 PB4, 135 PB5, 136 PB6, 137 PB7, 139 PB8, 140 PB9
part B pins: 1 PE2, 2 PE3, 3 PE4, 4 PE5, 5 PE6, 10 PF0/PH0, 11 PF1/PH1, 12 PF2, 13 PF3, 14 PF4, 15 PF5, 18 PF6, 19 PF7, 20 PF8, 21 PF9, 22 PF10, 49 PF11, 50 PF12, 53 PF13, 54 PF14, 55 PF15, 56 PG0, 57 PG1, 58 PE7, 59 PE8, 60 PE9, 63 PE10, 64 PE11, 65 PE12, 66 PE13, 67 PE14, 68 PE15, 77 PD8, 78 PD9, 79 PD10, 80 PD11, 81 PD12, 82 PD13, 85 PD14, 86 PD15, 87 PG2, 88 PG3, 89 PG4, 90 PG5, 91 PG6, 92 PG7, 93 PG8, 114 PD0, 115 PD1, 116 PD2, 117 PD3, 118 PD4, 119 PD5, 122 PD6, 123 PD7, 124 PG9, 125 PG10, 126 PG11, 127 PG12, 128 PG13, 129 PG14, 132 PG15, 141 PE0, 142 PE1
part C pins: 6 VBAT, 16 VSS_5, 17 VDD_5, 23 PH0/PF0-OSC_IN, 24 PH1/PF1-OSC_OUT, 25 NRST, 30 VDD_12/VSSA, 31 VSSA/VREF-, 32 VREF+, 33 VDDA, 38 VSS_4/BYPASS_REG, 39 VDD_4, 51 VSS_6, 52 VDD_6, 61 VSS_7, 62 VDD_7, 71 VCAP1/VSS_1, 72 VDD_1, 83 VSS_8, 84 VDD_8, 94 VSS_9/VSSIO_1, 95 VDD_9/VDDIO_1/VDD_USB33, 106 VCAP2/PH2/VDDUSB, 107 VSS_2, 108 VDD_2, 120 VSS_10, 121 VDD_10, 130 VSS_11/VSSIO_2, 131 VDD_11/VDDIO_2, 138 BOOT0, 143 PDR_ON/VSS_3/NC, 144 VDD_3/VDD_SA

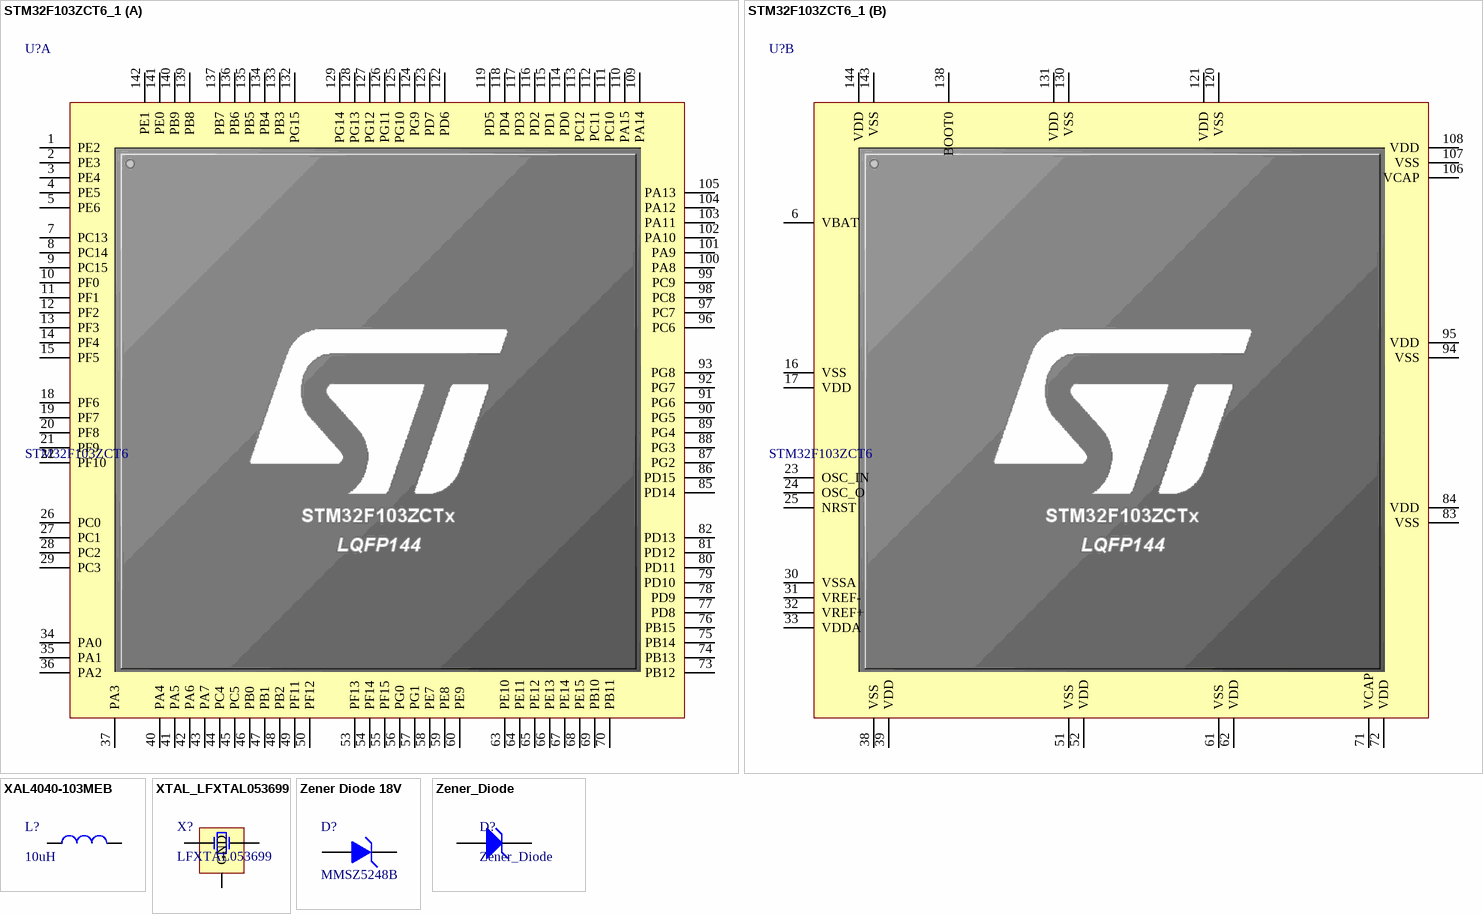
[diagram p3: symbols STM32F103ZCT6_1 to Zener_Diode]

## STM32F103ZCT6_1
designator U?, comment STM32F103ZCT6
Supplier Part Number 1: 1624142; Supplier 1: Farnell; HelpURL: https://www.espruino.com/datasheets/STM32F103xC.pdf
footprint LQFP144_0R5_SKT (32-bit MCU ARM-based Cortex-M3 20 X 20mm, 0.5mm Pitch, 1.6mm Max thickness)
part A pins: 1 PE2, 2 PE3, 3 PE4, 4 PE5, 5 PE6, 7 PC13, 8 PC14, 9 PC15, 10 PF0, 11 PF1, 12 PF2, 13 PF3, 14 PF4, 15 PF5, 18 PF6, 19 PF7, 20 PF8, 21 PF9, 22 PF10, 26 PC0, 27 PC1, 28 PC2, 29 PC3, 34 PA0, 35 PA1, 36 PA2, 37 PA3, 40 PA4, 41 PA5, 42 PA6, 43 PA7, 44 PC4, 45 PC5, 46 PB0, 47 PB1, 48 PB2, 49 PF11, 50 PF12, 53 PF13, 54 PF14, 55 PF15, 56 PG0, 57 PG1, 58 PE7, 59 PE8, 60 PE9, 63 PE10, 64 PE11, 65 PE12, 66 PE13, 67 PE14, 68 PE15, 69 PB10, 70 PB11, 73 PB12, 74 PB13, 75 PB14, 76 PB15, 77 PD8, 78 PD9, 79 PD10, 80 PD11, 81 PD12, 82 PD13, 85 PD14, 86 PD15, 87 PG2, 88 PG3, 89 PG4, 90 PG5, 91 PG6, 92 PG7, 93 PG8, 96 PC6, 97 PC7, 98 PC8, 99 PC9, 100 PA8, 101 PA9, 102 PA10, 103 PA11, 104 PA12, 105 PA13, 109 PA14, 110 PA15, 111 PC10, 112 PC11, 113 PC12, 114 PD0, 115 PD1, 116 PD2, 117 PD3, 118 PD4, 119 PD5, 122 PD6, 123 PD7, 124 PG9, 125 PG10, 126 PG11, 127 PG12, 128 PG13, 129 PG14, 132 PG15, 133 PB3, 134 PB4, 135 PB5, 136 PB6, 137 PB7, 139 PB8, 140 PB9, 141 PE0, 142 PE1
part B pins: 6 VBAT, 16 VSS, 17 VDD, 23 OSC_IN, 24 OSC_O, 25 NRST, 30 VSSA, 31 VREF-, 32 VREF+, 33 VDDA, 38 VSS, 39 VDD, 51 VSS, 52 VDD, 61 VSS, 62 VDD, 71 VCAP, 72 VDD, 83 VSS, 84 VDD, 94 VSS, 95 VDD, 106 VCAP, 107 VSS, 108 VDD, 120 VSS, 121 VDD, 130 VSS, 131 VDD, 138 BOOT0, 143 VSS, 144 VDD

## XAL4040-103MEB
designator L?, comment 10uH
Fixed Inductors XAL4040 High Current 10 uH 20 % 3.1 A; Value: 10uH; HelpURL: http://www.mouser.com/ds/2/597/xal4000-270751.pdf; Supplier 1: Mouser; Supplier Part Number 1: XAL4040-103MEB
footprint XAL40xx (Shielded Power Inductor  –  XAL40)
pins: 1 RF-IN, 2 RF-OUT

## XTAL_LFXTAL053699
designator X?, comment LFXTAL053699
Kryształ, 8 MHz, SMD, 7mm x 5mm, 100 ppm, 8 pF, 50 ppm, 12SMX Series; HelpURL: http://www.farnell.com/datasheets/2080672.pdf?_ga=2.99356638.1785413670.1499418746-486400827.1488280890; Supplier 1: Farnell; Supplier Part Number 1: 2612533
footprint LFXTAL053699 (CRYSTAL 8 MHz, SMD, 7mm x 5mm, 100 ppm, 8 pF, 50 ppm, 12SMX Series)
pins: 1 OSC1, 2 GND, 3 OSC2, 4 GND

## Zener Diode 18V
designator D?, comment MMSZ5248B
Zener Diode 18V; Manufacturer: FAIRCHILD SEMICONDUCTOR; Pin Count: 2; Package: SOD123; ManufacturerNr: MMSZ5248B; Value: 18V; HelpURL: https://www.diodes.com/assets/Datasheets/ds18010.pdf; Supplier 1: Digikey; Supplier Part Number 1: MMSZ5248B-FDICT-ND
footprint SOD123 (SOD123 DIODE)
pins: 1 A, 2 K

## Zener_Diode
designator D?
footprint SOD123 (SOD123 DIODE)
pins: 1 A, 2 K